# Altium footprint library User.PcbLib: 9 footprints
Each footprint in its own frame and in the unit in brackets; x right, y up, seen from the top. Pads: shape width x height; smd on the part's side, far side on the other; paste and mask are expansions set on the pad; w line width, h text height; cw(c..) or ccw(c..) is an arc to the next point about the centre after c.
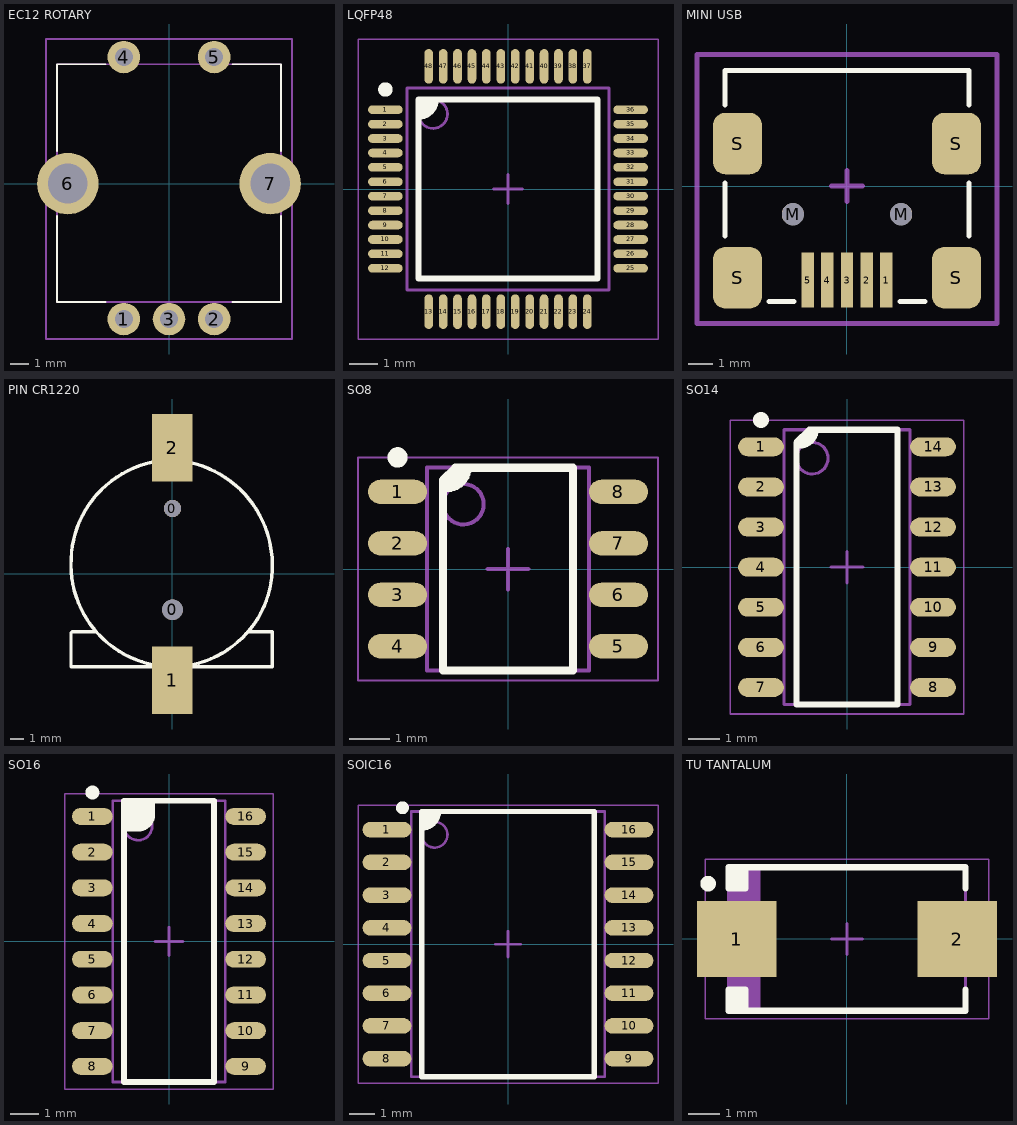
[diagram p0: the footprints below, top view; thin cyan lines are the x and y axes]

## EC12 ROTARY [mm]
pads (7):
  round 1.8 hole 1: 1(-2.5,-7.5) 2(2.5,-7.5) 3(0,-7.5) 4(-2.5,7) 5(2.5,7)
  round 3.4 hole 2.2: 6(-5.6,0) 7(5.6,0)
Top Overlay:
  lines w0.1: -6.2,-1.8 -6.2,-6.55 -3.5,-6.55 ; -6.2,1.8 -6.2,6.6 -3.5,6.6 ; 3.5,-6.55 6.2,-6.55 6.2,-1.8 ; 3.5,6.6 6.2,6.6 6.2,1.8
Mechanical 13:
  lines w0.1: -6.2,-6.55 6.2,-6.55 6.2,6.6 -6.2,6.6 -6.2,-6.55
Mechanical 15:
  lines w0.1: -6.8,-8.6 6.8,-8.6 6.8,8 -6.8,8 -6.8,-8.6
3D body "pec11r-4220k_l13-8_w12-4_h26-5.stp": height 26.5, standoff -3.7, extent -6.924,-7.675 6.924,7.175

## LQFP48 [mm] "LQFP, 48-Leads, Body 7.00x7.00mm, Pitch 0.50mm, IPC Medium Density"
height 1.6
pads (48):
  oval 1.2x0.3 smd: 1(-4.25,2.75) 2(-4.25,2.25) 3(-4.25,1.75) 4(-4.25,1.25) 5(-4.25,0.75) 6(-4.25,0.25) 7(-4.25,-0.25) 8(-4.25,-0.75) 9(-4.25,-1.25) 10(-4.25,-1.75) 11(-4.25,-2.25) 12(-4.25,-2.75) 25(4.25,-2.75) 26(4.25,-2.25) 27(4.25,-1.75) 28(4.25,-1.25) 29(4.25,-0.75) 30(4.25,-0.25) 31(4.25,0.25) 32(4.25,0.75) 33(4.25,1.25) 34(4.25,1.75) 35(4.25,2.25) 36(4.25,2.75)
  oval 0.3x1.2 smd: 13(-2.75,-4.25) 14(-2.25,-4.25) 15(-1.75,-4.25) 16(-1.25,-4.25) 17(-0.75,-4.25) 18(-0.25,-4.25) 19(0.25,-4.25) 20(0.75,-4.25) 21(1.25,-4.25) 22(1.75,-4.25) 23(2.25,-4.25) 24(2.75,-4.25) 37(2.75,4.25) 38(2.25,4.25) 39(1.75,4.25) 40(1.25,4.25) 41(0.75,4.25) 42(0.25,4.25) 43(-0.25,4.25) 44(-0.75,4.25) 45(-1.25,4.25) 46(-1.75,4.25) 47(-2.25,4.25) 48(-2.75,4.25)
Top Overlay:
  circle w0.25: c-4.25,3.45 r0.125
  region: -3.1,3.1 -2.5,3.1 -2.5,2.8 -2.8,2.5 -3.1,2.5
  lines w0.2: -3.1,2.5 ccw(c-3.1,3.1) -2.5,3.1 ; -3.1,-3.1 3.1,-3.1 3.1,3.1 -3.1,3.1 -3.1,-3.1
Mechanical 13:
  circle w0.1: c-2.6,2.6 r0.5
  lines w0.1: -3.5,-3.5 3.5,-3.5 3.5,3.5 -3.5,3.5 -3.5,-3.5
Mechanical 15:
  lines w0.05: -5.2,-5.2 5.2,-5.2 5.2,5.2 -5.2,5.2 -5.2,-5.2
  lines w0.1: -0.5,0 0.5,0 ; 0,-0.5 0,0.5
3D body "LQFP-48-7x7mm.STEP": height 1.55, standoff 0, extent -4.51,-4.51 4.511,4.511

## MINI USB [mm]
pads (11):
  rect 0.5x2.25 smd: 1(1.605,-3.813) 2(0.805,-3.813) 3(0.005,-3.813) 4(-0.795,-3.813) 5(-1.595,-3.813)
  round 0.9 hole 0.9 unplated: M(-2.195,-1.138) M(2.205,-1.138)
  rrect50% 2x2.5 smd: S(-4.445,-3.718) S(-4.445,1.732) S(4.455,-3.718) S(4.455,1.732)
Top Overlay:
  lines w0.2: -4.948,-2.027 -4.948,0.132 ; -4.948,3.307 -4.948,4.704 4.958,4.704 4.958,3.307 ; -3.17,-4.694 -2.154,-4.694 ; 2.164,-4.694 3.18,-4.694 ; 4.958,-2.027 4.958,0.132
Mechanical 15:
  lines w0.2: -0.63,0.013 0.64,0.013 ; 0.005,-0.622 0.005,0.648 ; -6.091,-5.575 -6.091,5.347 6.101,5.347 6.101,-5.575 -6.091,-5.575
3D body "FCI USB 10033526-N3212LF.STEP": height 4.01, standoff -0.99, extent -4.945,-4.688 4.955,4.712

## PIN CR1220 [mil]
pads (4):
  round 60 hole 60: 0(0,-105)
  round 50 hole 50: 0(0,190)
  rect 118.11x196.85 smd: 1(-0.28,-310.2) 2(-0.28,366.97)
Top Overlay:
  lines w10: -295.55,-172.4 -295.55,-270.83 291.06,-270.83 ; -291.61,-168.46 -224.69,-168.46 ; -19.96,331.54 cw(c-16.02,24.45) 291.06,28.39 cw(c-2.24,22.48) 3.66,-270.83 cw(c1.69,26.42) -295.55,24.45 cw(c3.66,32.32) -4.21,331.54 ; 220.2,-168.46 291.06,-168.46 291.06,-270.83 ; 291.06,-266.89 291.06,-172.4 ; 291.06,-262.95 291.06,-270.83
3D body "CR1220.STEP": height 159.49, standoff -35, extent -295.43,-329.17 295,399.17

## SO8 [mm] "SOIC, 8-Leads, Body 4.89x3.90mm, Pitch 1.27mm, IPC Medium Density"
height 1.75
pads (8):
  oval 1.45x0.6 smd: 1(-2.725,1.905) 2(-2.725,0.635) 3(-2.725,-0.635) 4(-2.725,-1.905) 5(2.725,-1.905) 6(2.725,-0.635) 7(2.725,0.635) 8(2.725,1.905)
Top Overlay:
  circle w0.25: c-2.725,2.755 r0.125
  region: -1.3,2.5 -1,2.5 -1,2.401 -1.076,2.217 -1.217,2.076 -1.401,2 -1.5,2 -1.6,2 -1.6,2.2
  lines w0.2: -1.6,2 -1.5,2 ccw(c-1.5,2.5) -1,2.5 ; -1.6,-2.5 1.6,-2.5 1.6,2.5 -1.3,2.5 -1.6,2.2 -1.6,-2.5
Mechanical 13:
  circle w0.1: c-1.1,1.6 r0.5
  lines w0.1: -2,-2.5 -2,2.5 2,2.5 2,-2.5 -2,-2.5
Mechanical 15:
  lines w0.05: -3.7,-2.75 -3.7,2.75 3.7,2.75 3.7,-2.75 -3.7,-2.75
  lines w0.1: -0.5,0 0.5,0 ; 0,-0.5 0,0.5
3D body "SO-8.STEP": height 1.5, standoff 0, extent -3.014,-2.45 3.014,2.45

## SO14 [mm] "SOIC, 14-Leads, Body 8.65x3.90mm, Pitch 1.27mm, IPC Medium Density"
height 1.75
pads (14):
  oval 1.45x0.6 smd: 1(-2.725,3.81) 2(-2.725,2.54) 3(-2.725,1.27) 4(-2.725,0) 5(-2.725,-1.27) 6(-2.725,-2.54) 7(-2.725,-3.81) 8(2.725,-3.81) 9(2.725,-2.54) 10(2.725,-1.27) 11(2.725,0) 12(2.725,1.27) 13(2.725,2.54) 14(2.725,3.81)
Top Overlay:
  circle w0.25: c-2.725,4.66 r0.125
  region: -1.3,4.35 -1,4.35 -1,4.251 -1.076,4.067 -1.217,3.926 -1.401,3.85 -1.5,3.85 -1.6,3.85 -1.6,4.05
  lines w0.2: -1.6,3.85 -1.5,3.85 ccw(c-1.5,4.35) -1,4.35 ; -1.6,-4.35 -1.6,3.95 -1.2,4.35 1.6,4.35 1.6,-4.35 -1.6,-4.35
Mechanical 13:
  circle w0.1: c-1.1,3.45 r0.5
  lines w0.1: -2,-4.35 2,-4.35 2,4.35 -2,4.35 -2,-4.35
Mechanical 15:
  lines w0.05: -3.7,-4.65 3.7,-4.65 3.7,4.65 -3.7,4.65 -3.7,-4.65
  lines w0.1: -0.5,0 0.5,0 ; 0,-0.5 0,0.5
3D body "SO-14 150mil Wide.STEP": height 1.65, standoff 0, extent -3.01,-4.325 3.01,4.325

## SO16 [mm] "SOP, 16-Leads, Body 9.90x3.90mm, Pitch 1.27mm, IPC Medium Density"
height 1.75
pads (16):
  oval 1.45x0.6 smd: 1(-2.725,4.445) 2(-2.725,3.175) 3(-2.725,1.905) 4(-2.725,0.635) 5(-2.725,-0.635) 6(-2.725,-1.905) 7(-2.725,-3.175) 8(-2.725,-4.445) 9(2.725,-4.445) 10(2.725,-3.175) 11(2.725,-1.905) 12(2.725,-0.635) 13(2.725,0.635) 14(2.725,1.905) 15(2.725,3.175) 16(2.725,4.445)
Top Overlay:
  circle w0.25: c-2.725,5.295 r0.125
  region: -1.6,5 -1.6,4 -1,4 -0.6,4.4 -0.6,5
  lines w0.2: -1.6,4 -1.1,4 ccw(c-1.1,4.5) -0.6,4.5 -0.6,5 ; -1.6,-5 -1.6,5 1.6,5 1.6,-5 -1.6,-5
Mechanical 13:
  circle w0.1: c-1.1,4.1 r0.5
  lines w0.1: -2,-5 -2,5 2,5 2,-5 -2,-5
Mechanical 15:
  lines w0.05: -3.7,-5.25 -3.7,5.25 3.7,5.25 3.7,-5.25 -3.7,-5.25
  lines w0.1: -0.5,0 0.5,0 ; 0,-0.5 0,0.5
3D body "TI SOP-16 D.step": height 1.75, standoff 0, extent -3,-5 3,5

## SOIC16 [mm] "SOIC, 16-Leads, Body 10.30x7.50mm, Pitch 1.27mm, IPC Medium Density"
height 2.65
pads (16):
  oval 1.9x0.6 smd: 1(-4.7,4.445) 2(-4.7,3.175) 3(-4.7,1.905) 4(-4.7,0.635) 5(-4.7,-0.635) 6(-4.7,-1.905) 7(-4.7,-3.175) 8(-4.7,-4.445) 9(4.7,-4.445) 10(4.7,-3.175) 11(4.7,-1.905) 12(4.7,-0.635) 13(4.7,0.635) 14(4.7,1.905) 15(4.7,3.175) 16(4.7,4.445)
Top Overlay:
  circle w0.25: c-4.1,5.295 r0.125
  region: -2.7,5.15 -2.7,4.9 -3.1,4.5 -3.35,4.5 -3.35,5.15
  lines w0.2: -2.7,5.15 cw(c-3.35,5.15) -3.35,4.5 ; -3.35,4.5 -3.35,4.5 ; -3.35,-5.15 -3.35,5.15 3.35,5.15 3.35,-5.15 -3.35,-5.15
Mechanical 13:
  circle w0.1: c-2.85,4.25 r0.5
  lines w0.1: -3.75,-5.15 -3.75,5.15 3.75,5.15 3.75,-5.15 -3.75,-5.15
Mechanical 15:
  lines w0.05: -5.825,-5.4 -5.825,5.4 5.825,5.4 5.825,-5.4 -5.825,-5.4
  lines w0.1: -0.5,0 0.5,0 ; 0,-0.5 0,0.5
3D body "SOIC-16 SiLabs Wide.STEP": height 2.65, standoff 0, extent -5.164,-5.15 5.164,5.15

## TU TANTALUM [mm]
pads (2):
  rect 2.55x2.45 smd: 1(-3.529,-0.014) 2(3.537,-0.014)
Top Overlay:
  circle w0.25: c-4.446,1.761 r0.125
  rectangle: -3.796,-2.314 -3.246,-1.639
  rectangle: -3.796,1.611 -3.246,2.286
  lines w0.2: -3.246,-2.314 -3.246,-1.639 -3.796,-1.639 -3.796,-2.314 3.804,-2.314 3.804,-1.639 ; -3.246,2.286 -3.246,1.611 -3.796,1.611 -3.796,2.286 3.804,2.286 3.804,1.611
Mechanical 13:
  rectangle: -3.796,-2.314 -2.774,2.286
  lines w0.1: -3.796,-2.314 -3.796,2.286 3.804,2.286 3.804,-2.314 -3.796,-2.314
Mechanical 15:
  lines w0.05: -4.546,-2.564 -4.546,2.536 4.554,2.536 4.554,-2.564 -4.546,-2.564
  lines w0.1: -0.496,-0.014 0.504,-0.014 ; 0.004,-0.514 0.004,0.486
3D body "Tantalum Capacitor case E.STEP": height 4.1, standoff 0, extent -3.646,-2.164 3.654,2.136